# Altium footprint library thomas_lib.PcbLib: 13 footprints
Each footprint in its own frame and in the unit in brackets; x right, y up, seen from the top. Pads: shape width x height; smd on the part's side, far side on the other; paste and mask are expansions set on the pad; w line width, h text height; cw(c..) or ccw(c..) is an arc to the next point about the centre after c.
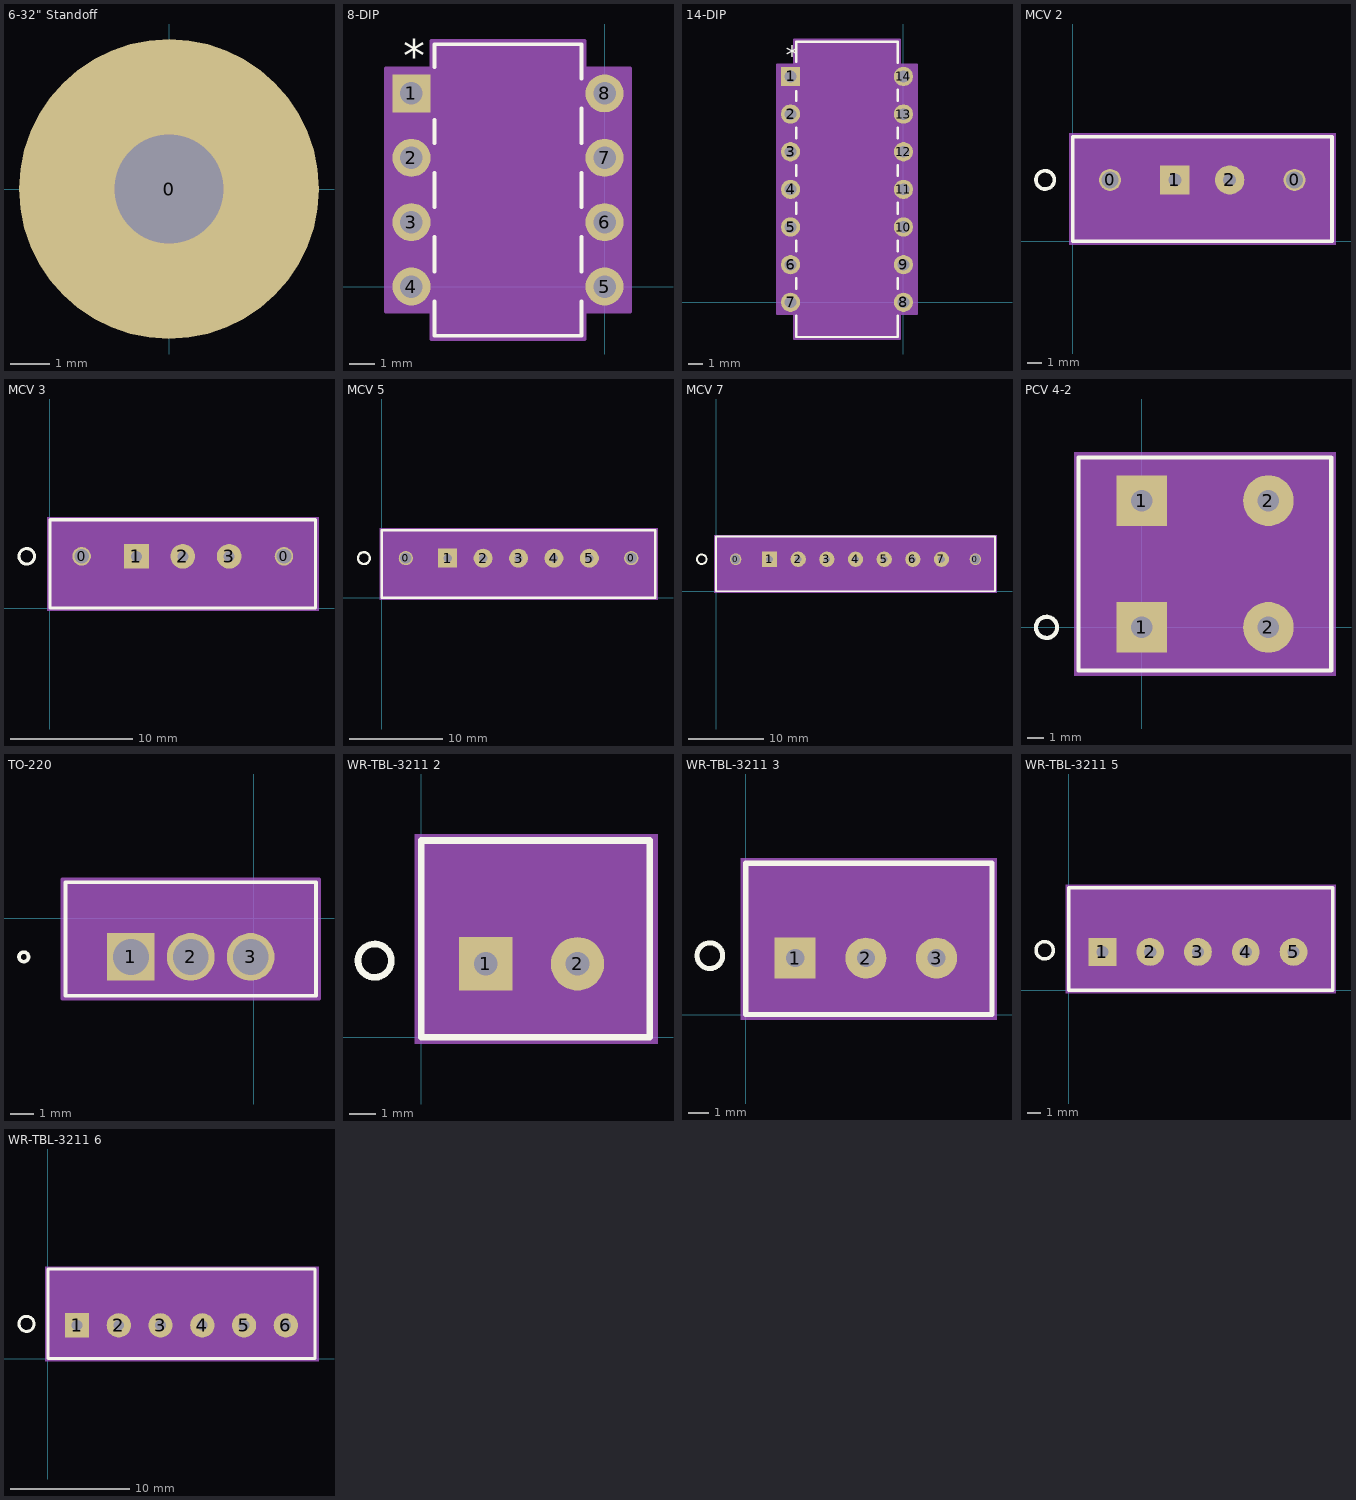
[diagram p0: the footprints below, top view; thin cyan lines are the x and y axes]

## 6-32" Standoff [mil] "Hole for a 6-32\" Standoff"
pads (1):
  round 300 hole 109.38: 0(0,0)

## 8-DIP [mil]
pads (8):
  rect 59x59 / inner round 60 / far side rect 59x59 hole 35 paste+0 mask+0: 1(-300,300)
  round 59 / inner round 60 / far side round 59 hole 35 paste+0 mask+0: 2(-300,200) 3(-300,100) 4(-300,0) 5(0,0) 6(0,100) 7(0,200) 8(0,300)
Top Overlay:
  lines w6: -264.22,-23.12 -264.22,-76.42 -35.78,-76.42 -35.78,-23.12 ; -264.22,23.12 -264.22,76.88 ; -264.22,123.12 -264.22,176.88 ; -264.22,223.12 -264.22,259 ; -264.22,341 -264.22,376.42 -35.78,376.42 -35.78,323.12 ; -35.78,23.12 -35.78,76.88 ; -35.78,123.12 -35.78,176.88 ; -35.78,223.12 -35.78,276.88
  text "*" at -312.5,334.5 h50
Mechanical 13:
  lines w0: -162,371.42 ccw(c-150,371.42) -138,371.42
  lines w1: -317.5,-17.5 -259.22,-17.5 -259.22,17.5 -317.5,17.5 -317.5,-17.5 ; -317.5,82.5 -259.22,82.5 -259.22,117.5 -317.5,117.5 -317.5,82.5 ; -317.5,182.5 -259.22,182.5 -259.22,217.5 -317.5,217.5 -317.5,182.5 ; -317.5,282.5 -259.22,282.5 -259.22,317.5 -317.5,317.5 -317.5,282.5 ; -259.22,-71.42 -259.22,371.42 -40.78,371.42 -40.78,-71.42 -259.22,-71.42 ; -40.78,-17.5 17.5,-17.5 17.5,17.5 -40.78,17.5 -40.78,-17.5 ; -40.78,82.5 17.5,82.5 17.5,117.5 -40.78,117.5 -40.78,82.5 ; -40.78,182.5 17.5,182.5 17.5,217.5 -40.78,217.5 -40.78,182.5 ; -40.78,282.5 17.5,282.5 17.5,317.5 -40.78,317.5 -40.78,282.5
  text "*" at -261.72,275 h50
Mechanical 15:
  region: -30.78,-39 39.5,-39 39.5,339 -30.78,339 -30.78,381.42 -269.22,381.42 -269.22,339 -339.5,339 -339.5,-39 -269.22,-39 -269.22,-81.42 -30.78,-81.42
  lines w6: -339.5,-39 -269.22,-39 -269.22,-81.42 -30.78,-81.42 -30.78,-39 39.5,-39 39.5,339 -30.78,339 -30.78,381.42 -269.22,381.42 -269.22,339 -339.5,339 -339.5,-39
3D body: height 10, standoff 0, extent 0,0 10,10

## 14-DIP [mil]
pads (14):
  rect 51x51 / inner round 60 / far side rect 51x51 hole 31 paste+0 mask+0: 1(-300,600)
  round 51 / inner round 60 / far side round 51 hole 31 paste+0 mask+0: 2(-300,500) 3(-300,400) 4(-300,300) 5(-300,200) 6(-300,100) 7(-300,0) 8(0,0) 9(0,100) 10(0,200) 11(0,300) 12(0,400) 13(0,500) 14(0,600)
Top Overlay:
  lines w6: -285,-35.57 -285,-92.5 -15,-92.5 -15,-35.57 ; -285,35.57 -285,64.43 ; -285,135.57 -285,164.43 ; -285,235.57 -285,264.43 ; -285,335.57 -285,364.43 ; -285,435.57 -285,464.43 ; -285,535.57 -285,561.4 ; -285,638.6 -285,692.5 -15,692.5 -15,635.57 ; -15,35.57 -15,64.43 ; -15,135.57 -15,164.43 ; -15,235.57 -15,264.43 ; -15,335.57 -15,364.43 ; -15,435.57 -15,464.43 ; -15,535.57 -15,564.43
  text "*" at -312.5,630.5 h50
Mechanical 13:
  lines w0: -162,687.5 ccw(c-150,687.5) -138,687.5
  lines w1: -315.5,-15.5 -315.5,15.5 -280,15.5 -280,-15.5 -315.5,-15.5 ; -315.5,84.5 -315.5,115.5 -280,115.5 -280,84.5 -315.5,84.5 ; -315.5,184.5 -315.5,215.5 -280,215.5 -280,184.5 -315.5,184.5 ; -315.5,284.5 -315.5,315.5 -280,315.5 -280,284.5 -315.5,284.5 ; -315.5,384.5 -315.5,415.5 -280,415.5 -280,384.5 -315.5,384.5 ; -315.5,484.5 -315.5,515.5 -280,515.5 -280,484.5 -315.5,484.5 ; -315.5,584.5 -315.5,615.5 -280,615.5 -280,584.5 -315.5,584.5 ; -280,-87.5 -20,-87.5 -20,687.5 -280,687.5 -280,-87.5 ; -20,-15.5 -20,15.5 15.5,15.5 15.5,-15.5 -20,-15.5 ; -20,84.5 -20,115.5 15.5,115.5 15.5,84.5 -20,84.5 ; -20,184.5 -20,215.5 15.5,215.5 15.5,184.5 -20,184.5 ; -20,284.5 -20,315.5 15.5,315.5 15.5,284.5 -20,284.5 ; -20,384.5 -20,415.5 15.5,415.5 15.5,384.5 -20,384.5 ; -20,484.5 -20,515.5 15.5,515.5 15.5,484.5 -20,484.5 ; -20,584.5 -20,615.5 15.5,615.5 15.5,584.5 -20,584.5
  text "*" at -282.5,575 h50
Mechanical 15:
  region: -10,-31 35.5,-31 35.5,631 -10,631 -10,697.5 -290,697.5 -290,631 -335.5,631 -335.5,-31 -290,-31 -290,-97.5 -10,-97.5
  lines w6: -335.5,-31 -335.5,631 -290,631 -290,697.5 -10,697.5 -10,631 35.5,631 35.5,-31 -10,-31 -10,-97.5 -290,-97.5 -290,-31 -335.5,-31
3D body: height 10, standoff 0, extent 0,0 10,10

## MCV 2 [mm] "TERM BLOCK HDR 2POS VERT 3.81MM"
height 9.2
pads (4):
  round 1.524 hole 1.2: 0(2.6,4.25) 0(15.41,4.25)
  rect 2.032x2.032 hole 0.9: 1(7.1,4.25)
  round 2.032 hole 0.9: 2(10.91,4.25)
Top Overlay:
  circle w0.254: c-1.905,4.25 r0.635
  lines w0.254: 0,0 18.01,0 18.01,7.25 0,7.25 0,0
Mechanical 13:
  lines w0.076: 0.381,0.381 0.381,6.858 17.653,6.858 17.653,0.381 0.381,0.381
Mechanical 15:
  rectangle: -0.254,-0.254 18.288,7.493

## MCV 3 [mm] "TERM BLOCK HDR 3POS VERT 3.81MM"
height 9.2
pads (5):
  round 1.524 hole 1.2: 0(2.6,4.25) 0(19.22,4.25)
  rect 2.032x2.032 hole 0.9: 1(7.1,4.25)
  round 2.032 hole 0.9: 2(10.91,4.25) 3(14.72,4.25)
Top Overlay:
  circle w0.254: c-1.905,4.25 r0.635
  lines w0.254: 0,0 21.82,0 21.82,7.25 0,7.25 0,0
Mechanical 13:
  lines w0.076: 0.381,0.381 0.381,6.858 21.463,6.858 21.463,0.381 0.381,0.381
Mechanical 15:
  rectangle: -0.254,-0.254 22.098,7.493

## MCV 5 [mm] "TERM BLOCK HDR 5POS VERT 3.81MM"
height 9.2
pads (7):
  round 1.524 hole 1.2: 0(2.6,4.25) 0(26.84,4.25)
  rect 2.032x2.032 hole 0.9: 1(7.1,4.25)
  round 2.032 hole 0.9: 2(10.91,4.25) 3(14.72,4.25) 4(18.53,4.25) 5(22.34,4.25)
Top Overlay:
  circle w0.254: c-1.905,4.25 r0.635
  lines w0.254: 0,0 0,7.25 29.44,7.25 29.44,0 0,0
Mechanical 13:
  lines w0.076: 0.381,0.381 29.083,0.381 29.083,6.858 0.381,6.858 0.381,0.381
Mechanical 15:
  rectangle: -0.254,-0.254 29.718,7.493

## MCV 7 [mm] "TERM BLOCK HDR 7POS VERT 3.81MM\"
height 9.2
pads (9):
  round 1.524 hole 1.2: 0(2.6,4.25) 0(34.46,4.25)
  rect 2.032x2.032 hole 0.9: 1(7.1,4.25)
  round 2.032 hole 0.9: 2(10.91,4.25) 3(14.72,4.25) 4(18.53,4.25) 5(22.34,4.25) 6(26.15,4.25) 7(29.96,4.25)
Top Overlay:
  circle w0.254: c-1.905,4.25 r0.635
  lines w0.254: 0,0 0,7.25 37.06,7.25 37.06,0 0,0
Mechanical 13:
  lines w0.076: 0.381,0.381 36.703,0.381 36.703,6.858 0.381,6.858 0.381,0.381
Mechanical 15:
  rectangle: -0.254,-0.254 37.338,7.493

## PCV 4-2 [mil] "TERM BLOCK HDR 2POS VERT 7.62MM"
height 1141.73
pads (4):
  rect 120x120 hole 51.18: 1(0,0) 1(0,300)
  round 120 hole 51.18: 2(300,0) 2(300,300)
Top Overlay:
  circle w10: c-225,0 r25
  lines w10: -149.61,-102.36 448.82,-102.36 448.82,402.36 -149.61,402.36 -149.61,-102.36
Mechanical 13:
  lines w3: -135,-90 -135,390 435,390 435,-90 -135,-90
Mechanical 15:
  rectangle: -160,-115 460,415

## TO-220 [mil]
pads (3):
  rect 80x80 / inner round 60 / far side rect 80x80 hole 60: 1(-205.79,-65)
  round 80 / inner round 60 / far side round 80 hole 60: 2(-105.39,-65) 3(-5,-65)
Top Overlay:
  circle w6: c-385.39,-65 r8
  lines w6: -315.39,-130.5 104.61,-130.5 104.61,60.5 -315.39,60.5 -315.39,-130.5
Mechanical 13:
  circle w0: c-290.39,-65 r8
  lines w1: -310.39,-125.5 99.61,-125.5 99.61,55.5 -310.39,55.5 -310.39,-125.5
  lines w6: -215.79,-65 -195.79,-65 ; -205.79,-75 -205.79,-55
Mechanical 15:
  region: 109.61,-135.5 -320.39,-135.5 -320.39,65.5 109.61,65.5
  lines w6: -320.39,-135.5 -320.39,65.5 109.61,65.5 109.61,-135.5 -320.39,-135.5
3D body: height 10, standoff 0, extent -5,-5 5,5

## WR-TBL-3211 2 [mm] "TERM BLOCK HDR 2POS VERT 3.5MM"
height 9.2
pads (2):
  rect 2.032x2.032 hole 0.9: 1(2.45,2.8)
  round 2.032 hole 0.9: 2(5.95,2.8)
Top Overlay:
  circle w0.254: c-1.778,2.921 r0.635
  lines w0.254: 0,0 0,7.5 8.7,7.5 8.7,0 0,0
Mechanical 13:
  lines w0.076: 0.381,0.381 8.4,0.381 8.4,7.2 0.381,7.2 0.381,0.381
Mechanical 15:
  rectangle: -0.254,-0.254 9.017,7.747

## WR-TBL-3211 3 [mm] "TERM BLOCK HDR 3POS VERT 3.5MM"
height 9.2
pads (3):
  rect 2.032x2.032 hole 0.9: 1(2.45,2.8)
  round 2.032 hole 0.9: 2(5.95,2.8) 3(9.45,2.8)
Top Overlay:
  circle w0.254: c-1.778,2.921 r0.635
  lines w0.254: 0,0 12.2,0 12.2,7.5 0,7.5 0,0
Mechanical 13:
  lines w0.076: 0.381,0.381 0.381,7.2 11.9,7.2 11.9,0.381 0.381,0.381
Mechanical 15:
  rectangle: -0.254,-0.254 12.446,7.747

## WR-TBL-3211 5 [mm] "TERM BLOCK HDR 5POS VERT 3.5MM"
height 9.2
pads (5):
  rect 2.032x2.032 hole 0.9: 1(2.45,2.8)
  round 2.032 hole 0.9: 2(5.95,2.8) 3(9.45,2.8) 4(12.95,2.8) 5(16.45,2.8)
Top Overlay:
  circle w0.254: c-1.778,2.921 r0.635
  lines w0.254: 0,0 0,7.5 19.304,7.5 19.304,0 0,0
Mechanical 13:
  lines w0.076: 0.381,0.381 18.9,0.381 18.9,7.2 0.381,7.2 0.381,0.381
Mechanical 15:
  rectangle: -0.254,-0.254 19.558,7.747

## WR-TBL-3211 6 [mm] "TERM BLOCK HDR 6POS VERT 3.5MM"
height 9.2
pads (6):
  rect 2.032x2.032 hole 0.9: 1(2.45,2.8)
  round 2.032 hole 0.9: 2(5.95,2.8) 3(9.45,2.8) 4(12.95,2.8) 5(16.45,2.8) 6(19.95,2.8)
Top Overlay:
  circle w0.254: c-1.778,2.921 r0.635
  lines w0.254: 0,0 22.4,0 22.4,7.5 0,7.5 0,0
Mechanical 13:
  lines w0.076: 0.381,0.381 0.381,7.2 22.098,7.2 22.098,0.381 0.381,0.381
Mechanical 15:
  rectangle: -0.254,-0.254 22.733,7.747